# Altium footprint library PCB1.PcbLib: 22 footprints (part 1 of 2)
Each footprint in its own frame and in the unit in brackets; x right, y up, seen from the top. Pads: shape width x height; smd on the part's side, far side on the other; paste and mask are expansions set on the pad; w line width, h text height; cw(c..) or ccw(c..) is an arc to the next point about the centre after c.
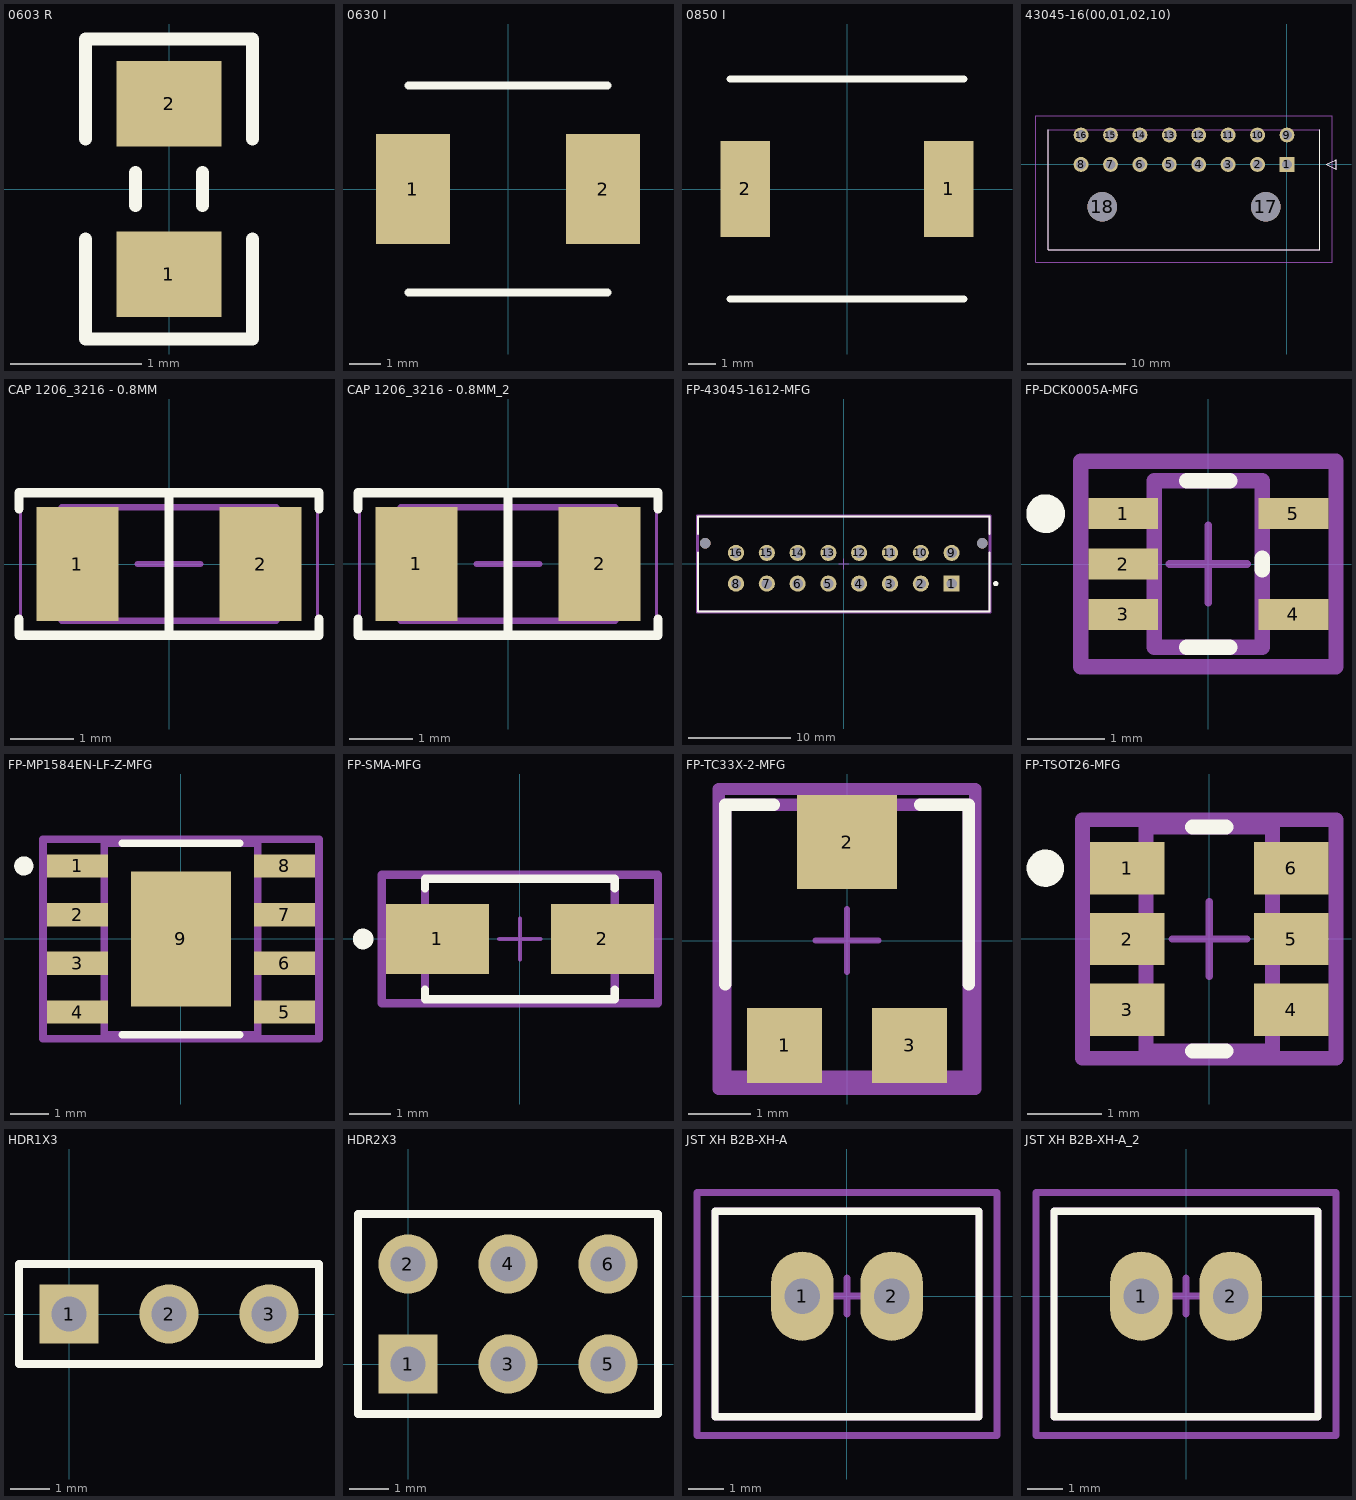
[diagram p0: the footprints below, top view; thin cyan lines are the x and y axes]

## 0603 R [mm]
pads (2):
  rect 0.8x0.65 smd mask+0.1: 1(0,-0.65) 2(0,0.65)
Top Overlay:
  lines w0.1: -0.635,-0.381 -0.635,-1.143 0.635,-1.143 0.635,-0.381 ; -0.635,0.381 -0.635,1.143 0.635,1.143 0.635,0.381 ; -0.254,-0.127 -0.254,0.127 ; 0.254,-0.127 0.254,0.127
3D body: height 0.4, standoff 0, extent -0.4,-0.8 0.4,0.8

## 0630 I [mm]
pads (2):
  rect 2.35x3.5 smd: 1(-3.025,0) 2(3.025,0)
Top Overlay:
  lines w0.254: -3.175,-3.3 3.175,-3.3 ; -3.175,3.3 3.175,3.3
3D body: height 3, standoff 0, extent -3.175,-3.3 3.175,3.302

## 0850 I [mm]
pads (2):
  rect 1.8x3.5 smd: 1(3.7,0) 2(-3.7,0)
Top Overlay:
  lines w0.254: -4.25,-4 4.25,-4 ; -4.25,4 4.25,4
3D body: height 5, standoff 0, extent -4.281,-4 4.281,4

## 43045-16(00,01,02,10) [mm]
pads (18):
  rect 1.52x1.52 hole 1.02: 1(0,0)
  round 1.52 hole 1.02: 2(-3,0) 3(-6,0) 4(-9,0) 5(-12,0) 6(-15,0) 7(-18,0) 8(-21,0) 9(0,3) 10(-3,3) 11(-6,3) 12(-9,3) 13(-12,3) 14(-15,3) 15(-18,3) 16(-21,3)
  round 3 hole 3 unplated: 17(-2.16,-4.32) 18(-18.84,-4.32)
Top Overlay:
  lines w0.127: -24.325,3.52 -24.325,-8.72 3.325,-8.72 3.325,3.52 ; 4,0 5,0.5 5,-0.5 4,0
Mechanical 13:
  lines w0.127: -24.325,-8.72 -24.325,3.52 3.325,3.52 3.325,-8.72 -24.325,-8.72 ; 4,0 5,0.5 5,-0.5 4,0
Mechanical 15:
  lines w0.05: -25.595,-9.99 -25.595,4.979 4.595,4.979 4.595,-9.99 -25.595,-9.99
3D body "43045-1600.stp": height 8.27, standoff -3.68, extent -24.575,-8.925 3.575,3.315

## CAP 1206_3216 - 0.8MM [mm]
pads (2):
  rect 1.3x1.8 smd: 1(-1.45,0) 2(1.45,0)
Top Overlay:
  lines w0.15: -2.375,-0.875 -2.375,-1.125 2.375,-1.125 2.375,-0.875 ; -2.375,0.875 -2.375,1.125 2.375,1.125 2.375,0.875 ; 0,-1.125 0,1.125
Mechanical 13:
  lines w0.1: -1.7,-0.9 -1.7,0.9 1.7,0.9 1.7,-0.9 -1.7,-0.9
Mechanical 15:
  lines w0.05: -2.35,-1.15 -2.35,1.15 2.35,1.15 2.35,-1.15 -2.35,-1.15
  lines w0.1: -0.5,0 0.5,0 ; 0,-0.5 0,0.5
3D body "CAP 1206-0.8mm.STEP": height 0.8, standoff 0, extent -1.6,-0.8 1.6,0.8

## CAP 1206_3216 - 0.8MM_2 [mm]
pads (2):
  rect 1.3x1.8 smd: 1(-1.45,0) 2(1.45,0)
Top Overlay:
  lines w0.15: -2.375,-0.875 -2.375,-1.125 2.375,-1.125 2.375,-0.875 ; -2.375,0.875 -2.375,1.125 2.375,1.125 2.375,0.875 ; 0,-1.125 0,1.125
Mechanical 13:
  lines w0.1: -1.7,-0.9 1.7,-0.9 1.7,0.9 -1.7,0.9 -1.7,-0.9
Mechanical 15:
  lines w0.05: -2.35,-1.15 2.35,-1.15 2.35,1.15 -2.35,1.15 -2.35,-1.15
  lines w0.1: -0.5,0 0.5,0 ; 0,-0.5 0,0.5
3D body "CAP 1206-0.8mm.STEP": height 0.8, standoff 0, extent -1.6,-0.8 1.6,0.8

## FP-43045-1612-MFG [mm]
pads (18):
  rect 1.57x1.57 hole 1.02 paste-1000 mask+0: 1(10.5,-1.915)
  round 1.57 hole 1.02 paste-1000 mask+0: 2(7.5,-1.915) 3(4.5,-1.915) 4(1.5,-1.915) 5(-1.5,-1.915) 6(-4.5,-1.915) 7(-7.5,-1.915) 8(-10.5,-1.915) 9(10.5,1.085) 10(7.5,1.085) 11(4.5,1.085) 12(1.5,1.085) 13(-1.5,1.085) 14(-4.5,1.085) 15(-7.5,1.085) 16(-10.5,1.085)
  round 1.02 hole 1.02 unplated paste-1000 mask+0: ""(-13.5,2.025) ""(13.5,2.025)
Top Overlay:
  circle w0.25: c14.8,-1.915 r0.125
  lines w0.2: -14.2,1.14 -14.2,-4.635 14.2,-4.635 14.2,1.14 ; -14.2,2.91 -14.2,4.635 14.2,4.635 14.2,2.91
Top 3D Body:
  lines w0.2: -14.2,-4.635 -14.2,4.635 14.2,4.635 14.2,-4.635 -14.2,-4.635
Top Courtyard:
  lines w0.2: -14.3,-4.735 -14.3,4.735 14.3,4.735 14.3,-4.735 -14.3,-4.735
Top Assembly:
  lines w0.2: -14.3,-4.735 -14.3,4.735 14.3,4.735 14.3,-4.735 -14.3,-4.735
Top Component Center:
  lines w0.1: -0.5,0 0.5,0 ; 0,-0.5 0,0.5
3D body "Conn_Molex_43045-1612_eec.STEP": height 0.25, standoff 0, extent -14.3,-4.735 14.3,4.735

## FP-DCK0005A-MFG [mm]
pads (5):
  rect 0.9x0.4 smd paste-1000 mask+0: 1(-1.1,0.65) 2(-1.1,0) 3(-1.1,-0.65) 4(1.1,-0.65) 5(1.1,0.65)
Top Overlay:
  circle w0.25: c-2.1,0.65 r0.125
  lines w0.2: -0.275,-1.075 0.275,-1.075 ; -0.275,1.075 0.275,1.075 ; 0.7,-0.075 0.7,0.075
Top Paste:
  rectangle: 0.675,-0.825 1.525,-0.475
  rectangle: 0.675,0.475 1.525,0.825
  rectangle: -1.525,-0.825 -0.675,-0.475
  rectangle: -1.525,-0.175 -0.675,0.175
  rectangle: -1.525,0.475 -0.675,0.825
Top 3D Body:
  lines w0.2: -0.7,-1.075 0.7,-1.075 0.7,1.075 -0.7,1.075 -0.7,-1.075
Top Courtyard:
  lines w0.2: -1.65,-1.325 1.65,-1.325 1.65,1.325 -1.65,1.325 -1.65,-1.325
Top Assembly:
  lines w0.2: -1.65,-1.325 1.65,-1.325 1.65,1.325 -1.65,1.325 -1.65,-1.325
Top Component Center:
  lines w0.1: -0.5,0 0.5,0 ; 0,-0.5 0,0.5
3D body "IC_Texas_Instruments_SN74AHC1G04DCKR_eec.STEP": height 1.1, standoff 0, extent -1.1,-1 1.1,1

## FP-MP1584EN-LF-Z-MFG [mm]
pads (9):
  rect 1.6x0.61 smd paste+0 mask+0: 1(-2.7,1.905) 2(-2.7,0.635) 3(-2.7,-0.635) 4(-2.7,-1.905) 5(2.7,-1.905) 6(2.7,-0.635) 7(2.7,0.635) 8(2.7,1.905)
  rect 2.62x3.51 smd paste+0 mask+0: 9(0,0)
Top Overlay:
  circle w0.25: c-4.1,1.905 r0.125
  lines w0.2: -1.525,-2.5 1.525,-2.5 ; -1.525,2.5 1.525,2.5
Top 3D Body:
  lines w0.2: -2,-2.5 2,-2.5 2,2.5 -2,2.5 -2,-2.5
Top Courtyard:
  lines w0.2: -3.6,-2.6 3.6,-2.6 3.6,2.6 -3.6,2.6 -3.6,-2.6
Top Assembly:
  lines w0.2: -3.6,-2.6 3.6,-2.6 3.6,2.6 -3.6,2.6 -3.6,-2.6
  text ".Designator" at 0,0 h1
Top Component Center:
  lines w0.1: -0.5,0 0.5,0 ; 0,-0.5 0,0.5
3D body "IC_Monolithic_Power_Systems_MP1584EN-LF-Z_eec.STEP": height 1.7, standoff 0, extent -3.1,-2.505 3.1,2.495

## FP-SMA-MFG [mm]
pads (2):
  rect 2.5x1.7 smd mask+0: 1(-2,0)
  rect 2.5x1.7 smd paste+0 mask+0: 2(2,0)
Top Overlay:
  circle w0.25: c-3.8,0 r0.125
  lines w0.2: -2.3,-1.225 -2.3,-1.46 2.3,-1.46 2.3,-1.225 ; -2.3,1.225 -2.3,1.46 2.3,1.46 2.3,1.225
Top 3D Body:
  lines w0.2: -2.3,-1.46 -2.3,1.46 2.3,1.46 2.3,-1.46 -2.3,-1.46
Top Courtyard:
  lines w0.2: -3.35,-1.56 -3.35,1.56 3.35,1.56 3.35,-1.56 -3.35,-1.56
Top Assembly:
  lines w0.2: -3.35,-1.56 -3.35,1.56 3.35,1.56 3.35,-1.56 -3.35,-1.56
  text ".Designator" at 0,0.188 h1
Top Component Center:
  lines w0.1: -0.5,0 0.5,0 ; 0,-0.5 0,0.5
3D body "Diode_Diodes_Inc_SBRT5A50SA-13_eec.STEP": height 2.4, standoff 0, extent -2.598,-1.302 2.598,1.302

## FP-TC33X-2-MFG [mm]
pads (3):
  rect 1.2x1.2 smd paste+0 mask+0: 1(-1,-1.675) 3(1,-1.675)
  rect 1.6x1.5 smd paste+0 mask+0: 2(0,1.575)
Top Overlay:
  lines w0.2: -1.95,-0.7 -1.95,2.175 -1.175,2.175 ; 1.175,2.175 1.95,2.175 1.95,-0.7
Top 3D Body:
  lines w0.2: -1.95,-2.175 1.95,-2.175 1.95,2.175 -1.95,2.175 -1.95,-2.175
Top Courtyard:
  lines w0.2: -2.05,-2.375 2.05,-2.375 2.05,2.425 -2.05,2.425 -2.05,-2.375
Top Assembly:
  lines w0.2: -2.05,-2.375 2.05,-2.375 2.05,2.425 -2.05,2.425 -2.05,-2.375
  text ".Designator" at 0,0.025 h1
Top Component Center:
  lines w0.1: -0.5,0 0.5,0 ; 0,-0.5 0,0.5
3D body "Res_Bourns_TC33X-2-104E_eec.STEP": height 1.5, standoff 0, extent -1.8,-1.9 1.8,1.9

## FP-TSOT26-MFG [mm]
pads (6):
  rect 1x0.7 smd paste+0 mask+0: 1(-1.1,0.95) 2(-1.1,0) 3(-1.099,-0.95) 4(1.1,-0.95) 5(1.1,0) 6(1.099,0.95)
Top Overlay:
  circle w0.25: c-2.2,0.95 r0.125
  lines w0.2: -0.225,-1.5 0.225,-1.5 ; -0.225,1.5 0.225,1.5
Top 3D Body:
  lines w0.2: -0.85,-1.5 -0.85,1.5 0.85,1.5 0.85,-1.5 -0.85,-1.5
Top Courtyard:
  lines w0.2: -1.699,-1.6 -1.699,1.6 1.699,1.6 1.699,-1.6 -1.699,-1.6
Top Assembly:
  lines w0.2: -1.699,-1.6 -1.699,1.6 1.699,1.6 1.699,-1.6 -1.699,-1.6
  text ".Designator" at 0,0.188 h1
Top Component Center:
  lines w0.1: -0.5,0 0.5,0 ; 0,-0.5 0,0.5
3D body "IC_Diodes_Inc_AP63205WU-7_eec.STEP": height 1, standoff 0, extent -1.4,-1.45 1.4,1.45

## HDR1X3 [mm]
pads (3):
  rect 1.5x1.5 hole 0.9: 1(0,0)
  round 1.5 hole 0.9: 2(2.54,0) 3(5.08,0)
Top Overlay:
  lines w0.2: -1.27,-1.27 -1.27,1.27 6.35,1.27 6.35,-1.27 -1.27,-1.27

## HDR2X3 [mm]
pads (6):
  rect 1.5x1.5 hole 0.9: 1(0,0)
  round 1.5 hole 0.9: 2(0,2.54) 3(2.54,0) 4(2.54,2.54) 5(5.08,0) 6(5.08,2.54)
Top Overlay:
  lines w0.2: 1.482,-1.27 6.35,-1.27 ; 6.35,-1.27 -1.27,-1.27 -1.27,3.81 6.35,3.81 6.35,-1.27

## JST XH B2B-XH-A [mm]
pads (2):
  oval 1.75x2.5 hole 1: 1(-1.25,0) 2(1.25,0)
Top Overlay:
  lines w0.2: -3.7,-3.375 3.7,-3.375 3.7,2.375 -3.7,2.375 -3.7,-3.375
Mechanical 1:
  lines w0.2: -3.7,-3.375 -3.7,2.375 3.7,2.375 3.7,-3.375 -3.7,-3.375
Mechanical 15:
  lines w0.2: -0.5,0 0.5,0 ; 0,-0.5 0,0.5 ; -4.2,-3.9 4.2,-3.9 4.2,2.9 -4.2,2.9 -4.2,-3.9
3D body "JST B2B-XH-A.STEP": height 7, standoff -3.4, extent -3.7,-3.375 3.7,2.375

## JST XH B2B-XH-A_2 [mm]
pads (2):
  oval 1.75x2.5 hole 1: 1(-1.25,0) 2(1.25,0)
Top Overlay:
  lines w0.2: -3.7,-3.375 3.7,-3.375 3.7,2.375 -3.7,2.375 -3.7,-3.375
Mechanical 1:
  lines w0.2: -3.7,-3.375 -3.7,2.375 3.7,2.375 3.7,-3.375 -3.7,-3.375
Mechanical 15:
  lines w0.2: -0.5,0 0.5,0 ; 0,-0.5 0,0.5 ; -4.2,-3.9 4.2,-3.9 4.2,2.9 -4.2,2.9 -4.2,-3.9
3D body "JST B2B-XH-A.STEP": height 7, standoff -3.4, extent -3.7,-3.375 3.7,2.375